# Altium schematic symbol library TI_TPS259620DDAT.SchLib: 1 symbol
Pins are listed as number, name and electrical type; pins without a type are passive.

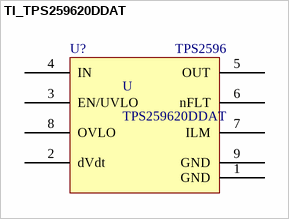
[diagram p0: symbol TI_TPS259620DDAT]

## TI_TPS259620DDAT
designator U, comment TPS259620DDAT
Texas Instruments TPS259620DDAT; ComponentLink1Description: TI Link; ComponentLink1URL: http://www.ti.com/product/TPS2596
footprint TPS259620DDAT - duplicate
pins: 1 GND, 2 dVdt, 3 EN/UVLO, 4 IN, 5 OUT, 6 nFLT, 7 ILM, 8 OVLO, 9 GND
text: U?; TPS2596